# Altium schematic symbol library MPU-9250.SchLib: 1 symbol
Pins are listed as number, name and electrical type; pins without a type are passive.

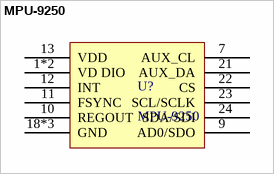
[diagram p0: symbol MPU-9250]

## MPU-9250
designator U?
footprint MPU-9250; pin to pad 1*2>1 18*3>18
pins: 1*2 VD DIO, 7 AUX_CL, 9 AD0/SDO, 10 REGOUT, 11 FSYNC, 12 INT, 13 VDD, 18*3 GND, 21 AUX_DA, 22 CS, 23 SCL/SCLK, 24 SDA/SDI